# EAGLE library part MAX17049 (library ICs)
3μA 1-Cell/2-Cell Fuel Gauge with ModelGauge
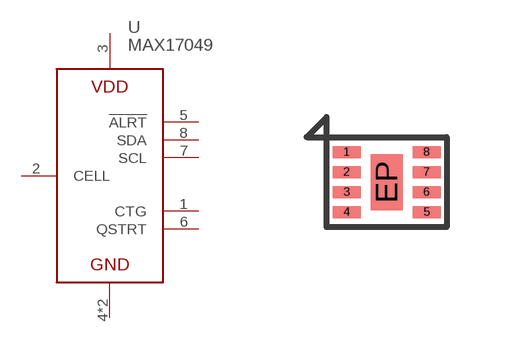
[diagram p272: symbol with the pads of DFN8; footprint DFN8]

Designator prefix U

## MAX17049 (DIGIKEY: MAX17049G+T10-ND; HEIGHT: 1; VALUE: MAX17049)  [DFN8]
1  CTG
2  CELL
3  VDD
4  GND
5  !ALRT
6  QSTRT
7  SCL
8  SDA
EP  GND

## Footprint DFN8 (pad centres in mm)
smd 0.7 x 0.3: 1 -1,0.75; 2 -1,0.25; 3 -1,-0.25; 4 -1,-0.75; 5 1,-0.75; 6 1,-0.25; 7 1,0.25; 8 1,0.75
smd 0.8 x 1.4: EP 0,0